# Altium schematic symbol library AHT21.SchLib: 1 symbol
Pins are listed as number, name and electrical type; pins without a type are passive.

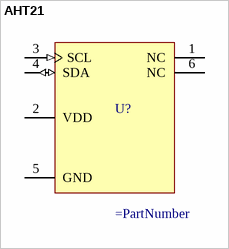
[diagram p0: symbol AHT21]

## AHT21
designator U?
pins: 1 NC "Must be left unconnected", 2 VDD (power) "Supply Voltage", 3 SCL (in) "Selector for RH or Temp", 4 SDA (io) "Data bit-stream", 5 GND (power) "Ground", 6 NC "Must be left unconnected"